# Altium footprint library PcbLib1.PcbLib: 1 footprints
Each footprint in its own frame and in the unit in brackets; x right, y up, seen from the top. Pads: shape width x height; smd on the part's side, far side on the other; paste and mask are expansions set on the pad; w line width, h text height; cw(c..) or ccw(c..) is an arc to the next point about the centre after c.
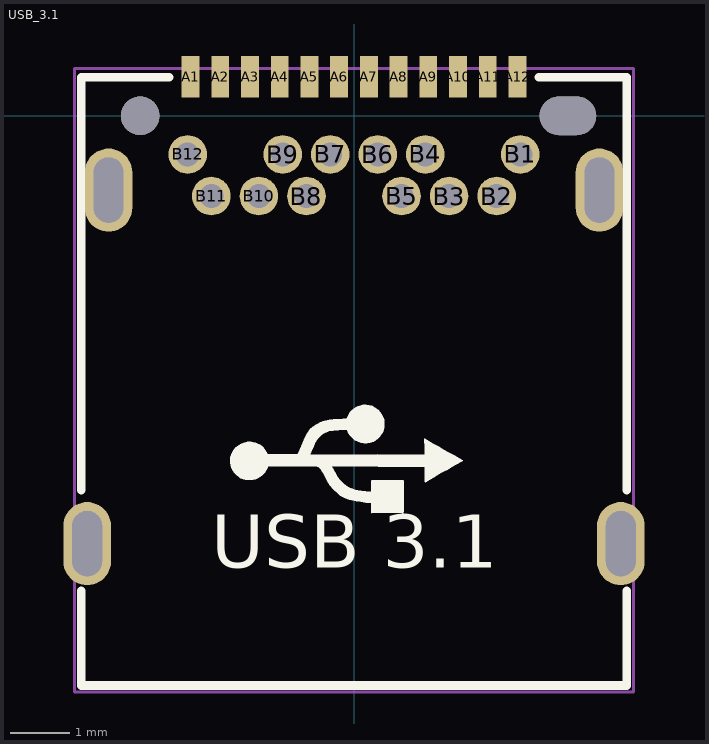
[diagram p0: the footprint, top view; thin cyan lines are the x and y axes]

## USB_3.1 [mm]
height 3.3
pads (30):
  rect 0.3x0.7 smd: A1(-2.75,0.66) A2(-2.25,0.66) A3(-1.75,0.66) A4(-1.25,0.66) A5(-0.75,0.66) A6(-0.25,0.66) A7(0.25,0.66) A8(0.75,0.66) A9(1.25,0.66) A10(1.75,0.66) A11(2.25,0.66) A12(2.75,0.66)
  round 0.65 hole 0.4 mask+0: B1(2.8,-0.65) B2(2.4,-1.35) B3(1.6,-1.35) B4(1.2,-0.65) B5(0.8,-1.35) B6(0.4,-0.65) B7(-0.4,-0.65) B8(-0.8,-1.35) B9(-1.2,-0.65) B10(-1.6,-1.35) B11(-2.4,-1.35) B12(-2.8,-0.65)
  oval 0.8x1.4 hole 0.5 slot 1.1 at 90 deg mask+0: ""(-4.49,-7.2) ""(-4.13,-1.25) ""(4.13,-1.25) ""(4.49,-7.2)
  round 0.65 hole 0.65 unplated mask+0: ""(-3.6,0)
  oval 0.95x0.65 hole 0.65 slot 0.95 at 0 deg unplated mask+0: ""(3.6,0)
Top Overlay:
  drawing of 8 lines, arcs and shapes, not listed
  text "USB 3.1" at -2.4,-7.9 h1.52
Mechanical 14:
  lines w0.051: -4.7,-9.7 -4.7,0.8 4.7,0.8 4.7,-9.7 -4.7,-9.7
3D body: height 3.3, standoff 0, extent -4.5,-9.6 4.5,0.825